# Altium schematic symbol library TPS2111A.SchLib: 1 symbol
Pins are listed as number, name and electrical type; pins without a type are passive.

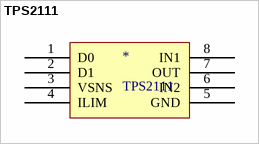
[diagram p0: symbol TPS2111]

## TPS2111
designator *
footprint TSOP65P640-8AL (TSOP, 8-Leads, Body 3x4.4mm, Pitch 0.65mm, IPC High Density)
pins: 1 D0, 2 D1, 3 VSNS, 4 ILIM, 5 GND, 6 IN2, 7 OUT, 8 IN1